# Altium footprint library RM_addition.PcbLib: 124 footprints (part 3 of 8)
Each footprint in its own frame and in the unit in brackets; x right, y up, seen from the top. Pads: shape width x height; smd on the part's side, far side on the other; paste and mask are expansions set on the pad; w line width, h text height; cw(c..) or ccw(c..) is an arc to the next point about the centre after c.
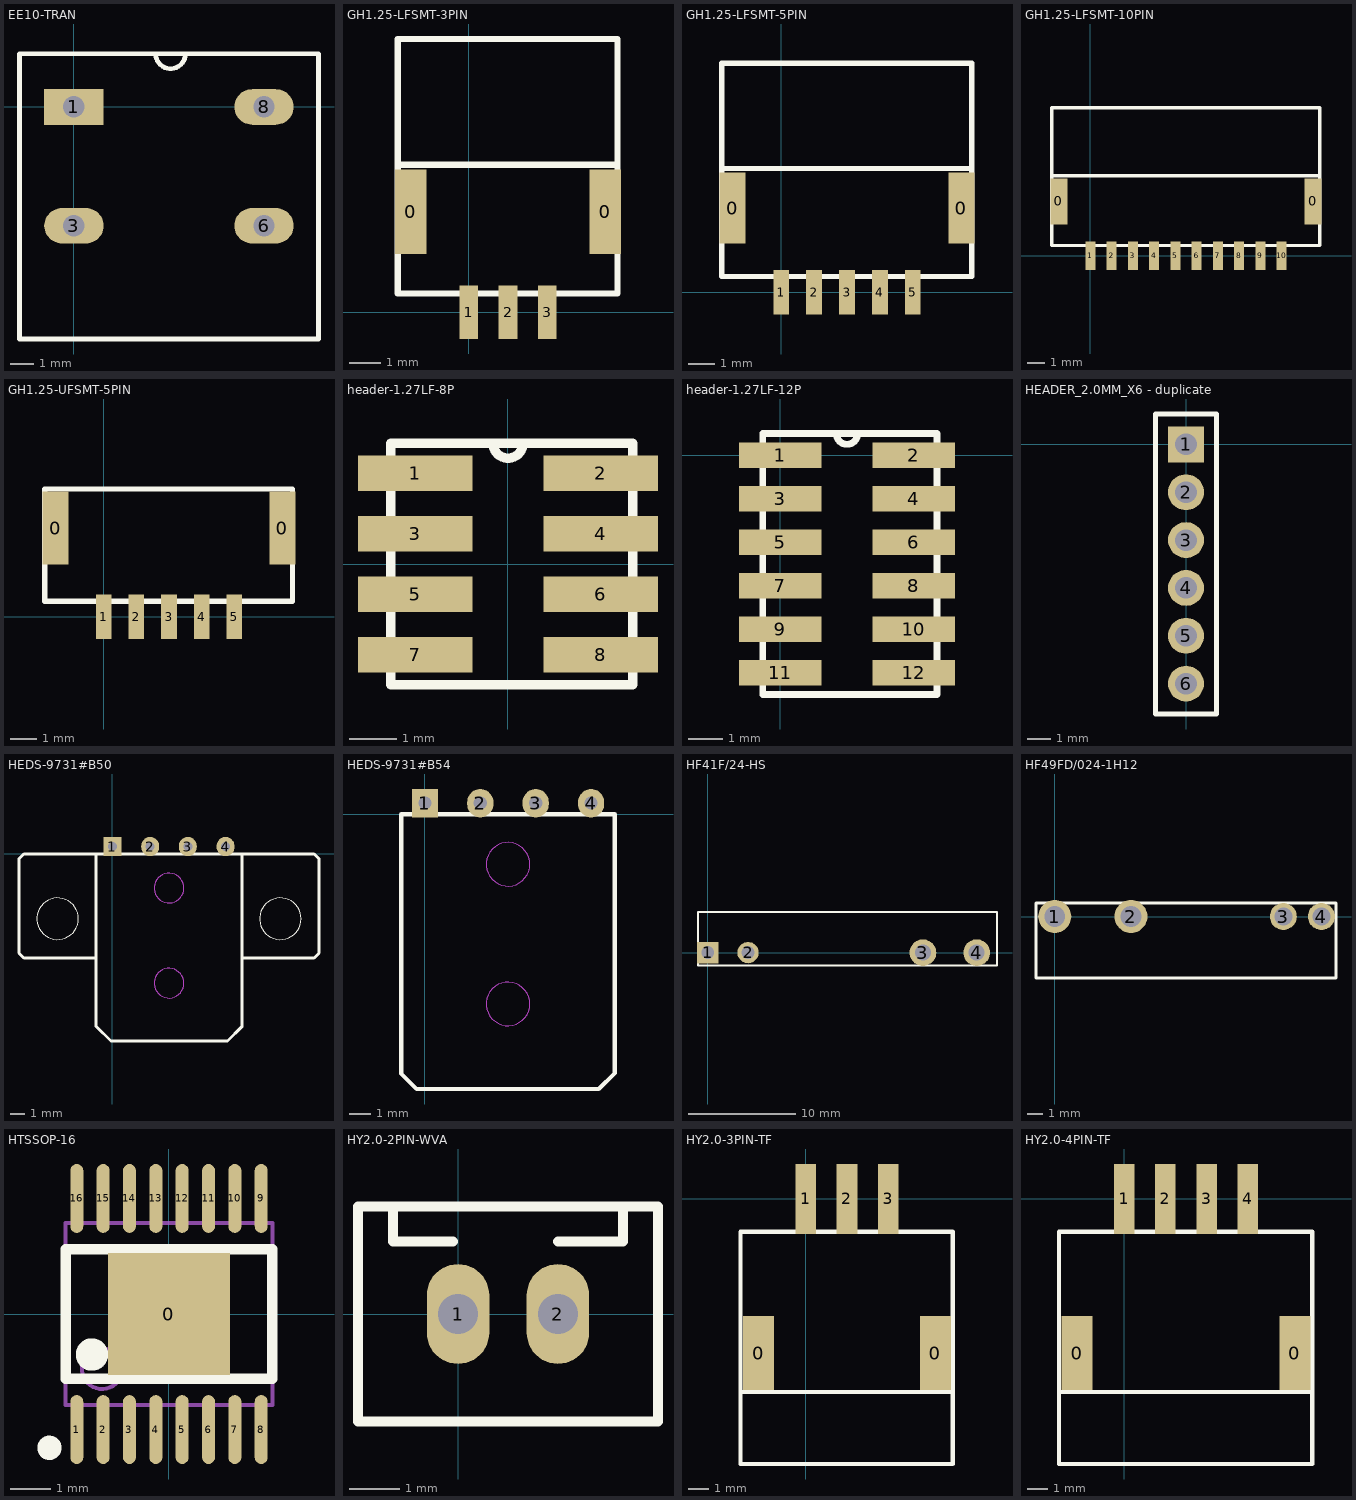
[diagram p2: the footprints below, top view; thin cyan lines are the x and y axes]

## EE10-TRAN [mm]
pads (4):
  rect 2.5x1.5 hole 0.9: 1(0,0)
  oval 2.5x1.5 hole 0.9: 3(0,-5) 6(8,-5) 8(8,0)
Top Overlay:
  lines w0.2: 3.439,2.234 ccw(c4.064,2.234) 4.689,2.234 ; -2.286,-9.766 10.287,-9.766 10.287,2.234 1.375,2.234 -2.286,2.234 -2.286,-9.766

## GH1.25-LFSMT-3PIN [mm]
pads (5):
  rect 1x2.7 smd: 0(-1.85,3.2) 0(4.35,3.2)
  rect 0.6x1.7 smd: 1(0,0) 2(1.25,0) 3(2.5,0)
Top Overlay:
  lines w0.2: -2.262,4.699 -2.262,8.699 4.738,8.699 4.738,4.699 ; -2.262,4.699 -2.262,0.599 4.738,0.599 4.738,4.699 ; -2.262,4.699 4.738,4.699

## GH1.25-LFSMT-5PIN [mm]
pads (7):
  rect 1x2.7 smd: 0(-1.85,3.2) 0(6.85,3.2)
  rect 0.6x1.7 smd: 1(0,0) 2(1.25,0) 3(2.5,0) 4(3.75,0) 5(5,0)
Top Overlay:
  lines w0.2: -2.262,4.699 7.238,4.699 ; -2.262,4.699 -2.262,0.599 7.238,0.599 7.238,4.699 ; -2.262,4.699 -2.262,8.699 7.238,8.699 7.238,4.699

## GH1.25-LFSMT-10PIN [mm]
pads (12):
  rect 1x2.7 smd: 0(-1.85,3.2) 0(13.1,3.2)
  rect 0.6x1.7 smd: 1(0,0) 2(1.25,0) 3(2.5,0) 4(3.75,0) 5(5,0) 6(6.25,0) 7(7.5,0) 8(8.75,0) 9(10,0) 10(11.25,0)
Top Overlay:
  lines w0.2: -2.262,4.699 13.488,4.699 ; -2.262,4.699 -2.262,0.599 13.488,0.599 13.488,4.699 ; -2.262,4.699 -2.262,8.699 13.488,8.699 13.488,4.699

## GH1.25-UFSMT-5PIN [mm]
pads (7):
  rect 1x2.8 smd: 0(-1.85,3.4) 0(6.85,3.4)
  rect 0.6x1.7 smd: 1(0,0) 2(1.25,0) 3(2.5,0) 4(3.75,0) 5(5,0)
Top Overlay:
  lines w0.2: -2.262,0.599 7.238,0.599 7.238,4.899 -2.262,4.899 -2.262,0.599

## header-1.27LF-8P [mm] "header-1.27mm-12pin"
height 5.2
pads (8):
  rect 2.4x0.74 smd: 1(-1.95,1.905) 2(1.95,1.905) 3(-1.95,0.635) 4(1.95,0.635) 5(-1.95,-0.635) 6(1.95,-0.635) 7(-1.95,-1.905) 8(1.95,-1.905)
Top Overlay:
  lines w0.2: -2.458,-2.54 2.622,-2.54 2.622,2.54 -0.318,2.54 ccw(c0,2.54) 0.318,2.54 -2.458,2.54 -2.458,-2.54

## header-1.27LF-12P [mm] "header-1.27mm-12pin"
height 5.2
pads (12):
  rect 2.4x0.74 smd: 1(0,0) 2(3.9,0) 3(0,-1.27) 4(3.9,-1.27) 5(0,-2.54) 6(3.9,-2.54) 7(0,-3.81) 8(3.9,-3.81) 9(0,-5.08) 10(3.9,-5.08) 11(0,-6.35) 12(3.9,-6.35)
Top Overlay:
  lines w0.2: -0.508,-6.985 -0.508,0.635 2.267,0.635 cw(c1.95,0.635) 1.632,0.635 4.572,0.635 4.572,-6.985 -0.508,-6.985

## HEADER_2.0MM_X6 - duplicate [mm]
pads (6):
  rect 1.5x1.5 hole 0.9: 1(0,0)
  round 1.5 hole 0.9: 2(0,-2) 3(0,-4) 4(0,-6) 5(0,-8) 6(0,-10)
Top Overlay:
  lines w0.2: -1.27,-11.27 -1.27,1.27 0,1.27 1.27,1.27 1.27,-11.27 ; -1.237,-11.27 0,-11.27 1.237,-11.27

## HEDS-9731#B50 [mm]
pads (4):
  rect 1.2x1.3 hole 0.6: 1(0,0.5)
  oval 1.2x1.3 hole 0.6: 2(2.54,0.5) 3(5.08,0.5) 4(7.62,0.5)
Top Overlay:
  circle w0.02: c-3.69,-4.36 r1.4
  circle w0.02: c11.31,-4.36 r1.4
  lines w0.2: -1.09,-7 -5.969,-7 -6.29,-6.679 -6.29,-0.321 -5.969,0 -1.09,0 ; 8.71,-7 13.589,-7 13.91,-6.679 13.91,-0.321 13.589,0 8.71,0 ; -1.09,0 8.71,0 ; -1.09,0 -1.09,-11.61 -0.1,-12.6 3.81,-12.6 7.746,-12.6 8.71,-11.636 8.71,0
Keep-Out Layer:
  circle w0.02: c3.81,-2.3 r1
  circle w0.02: c3.81,-8.7 r1
Mechanical 1:
  circle w0.02: c3.81,-2.3 r1
  circle w0.02: c3.81,-8.7 r1

## HEDS-9731#B54 [mm]
pads (4):
  rect 1.2x1.3 hole 0.6: 1(0,0.5)
  oval 1.2x1.3 hole 0.6: 2(2.54,0.5) 3(5.08,0.5) 4(7.62,0.5)
Top Overlay:
  lines w0.2: -1.09,-11.89 -1.09,0 8.71,0 8.71,-11.864 7.974,-12.6 3.81,-12.6 -0.38,-12.6 -1.09,-11.89
Keep-Out Layer:
  circle w0.02: c3.81,-8.7 r1
  circle w0.02: c3.81,-2.3 r1
Mechanical 1:
  circle w0.02: c3.81,-8.7 r1
  circle w0.02: c3.81,-2.3 r1

## HF41F/24-HS [mm]
pads (4):
  rect 2x2 hole 1.2: 1(0,0)
  round 2 hole 1.2: 2(3.78,0)
  round 2.5 hole 1.5: 3(20.16,0) 4(25.2,0)
Top Overlay:
  lines w0.2: -0.9,-1.2 -0.9,3.8 27.1,3.8 27.1,-1.2 -0.9,-1.2

## HF49FD/024-1H12 [mm]
pads (4):
  round 2.2 hole 1.4: 1(0,0) 2(5.08,0)
  round 1.8 hole 1.2: 3(15.24,0) 4(17.78,0)
Top Overlay:
  lines w0.2: -1.25,-4.1 18.75,-4.1 18.75,0.9 -1.25,0.9 -1.25,-4.1

## HTSSOP-16 [mm]
pads (17):
  rect 3x3 smd: 0(0,0)
  oval 0.32x1.7 smd: 1(-2.275,-2.85) 2(-1.625,-2.85) 3(-0.975,-2.85) 4(-0.325,-2.85) 5(0.325,-2.85) 6(0.975,-2.85) 7(1.625,-2.85) 8(2.275,-2.85) 9(2.275,2.85) 10(1.625,2.85) 11(0.975,2.85) 12(0.325,2.85) 13(-0.325,2.85) 14(-0.975,2.85) 15(-1.625,2.85) 16(-2.275,2.85)
Top Overlay:
  circle w0.4: c-1.9,-1 r0.2
  circle w0.3: c-2.95,-3.3 r0.15
  lines w0.254: -2.55,-1.6 2.55,-1.6 2.55,1.6 -2.55,1.6 -2.55,-1.6
Mechanical 13:
  circle w0.1: c-1.65,-1.35 r0.5
  lines w0.1: -2.55,-2.25 2.55,-2.25 2.55,2.25 -2.55,2.25 -2.55,-2.25

## HY2.0-2PIN-WVA [mm]
pads (2):
  oval 1.25x2 hole 0.8: 1(0,0) 2(2,0)
Top Overlay:
  lines w0.2: -1.3,2.15 -1.3,1.45 -0.1,1.45 ; 2,1.45 3.3,1.45 3.3,2.15 ; -2,-2.15 -2,2.15 4,2.15 4,-2.15 -2,-2.15

## HY2.0-3PIN-TF [mm]
pads (5):
  rect 1.5x3.6 smd: 0(-2.3,-7.5) 0(6.3,-7.5)
  rect 1x3.4 smd: 1(0,0) 2(2,0) 3(4,0)
Top Overlay:
  lines w0.2: -3.175,-9.398 -3.175,-12.898 7.144,-12.898 7.144,-9.398 ; -3.175,-9.398 -3.175,-1.598 7.144,-1.598 7.144,-9.398 ; -3.175,-9.398 7.144,-9.398

## HY2.0-4PIN-TF [mm]
pads (6):
  rect 1.5x3.6 smd: 0(-2.3,-7.5) 0(8.3,-7.5)
  rect 1x3.4 smd: 1(0,0) 2(2,0) 3(4,0) 4(6,0)
Top Overlay:
  lines w0.2: -3.175,-9.398 9.144,-9.398 ; -3.175,-9.398 -3.175,-1.598 9.144,-1.598 9.144,-9.398 ; -3.175,-9.398 -3.175,-12.898 9.144,-12.898 9.144,-9.398